# Altium integrated library Linear Technology Power Management Switching Regulator LT1074-LT8705.IntLib: 2252 symbols (part 27 of 148)
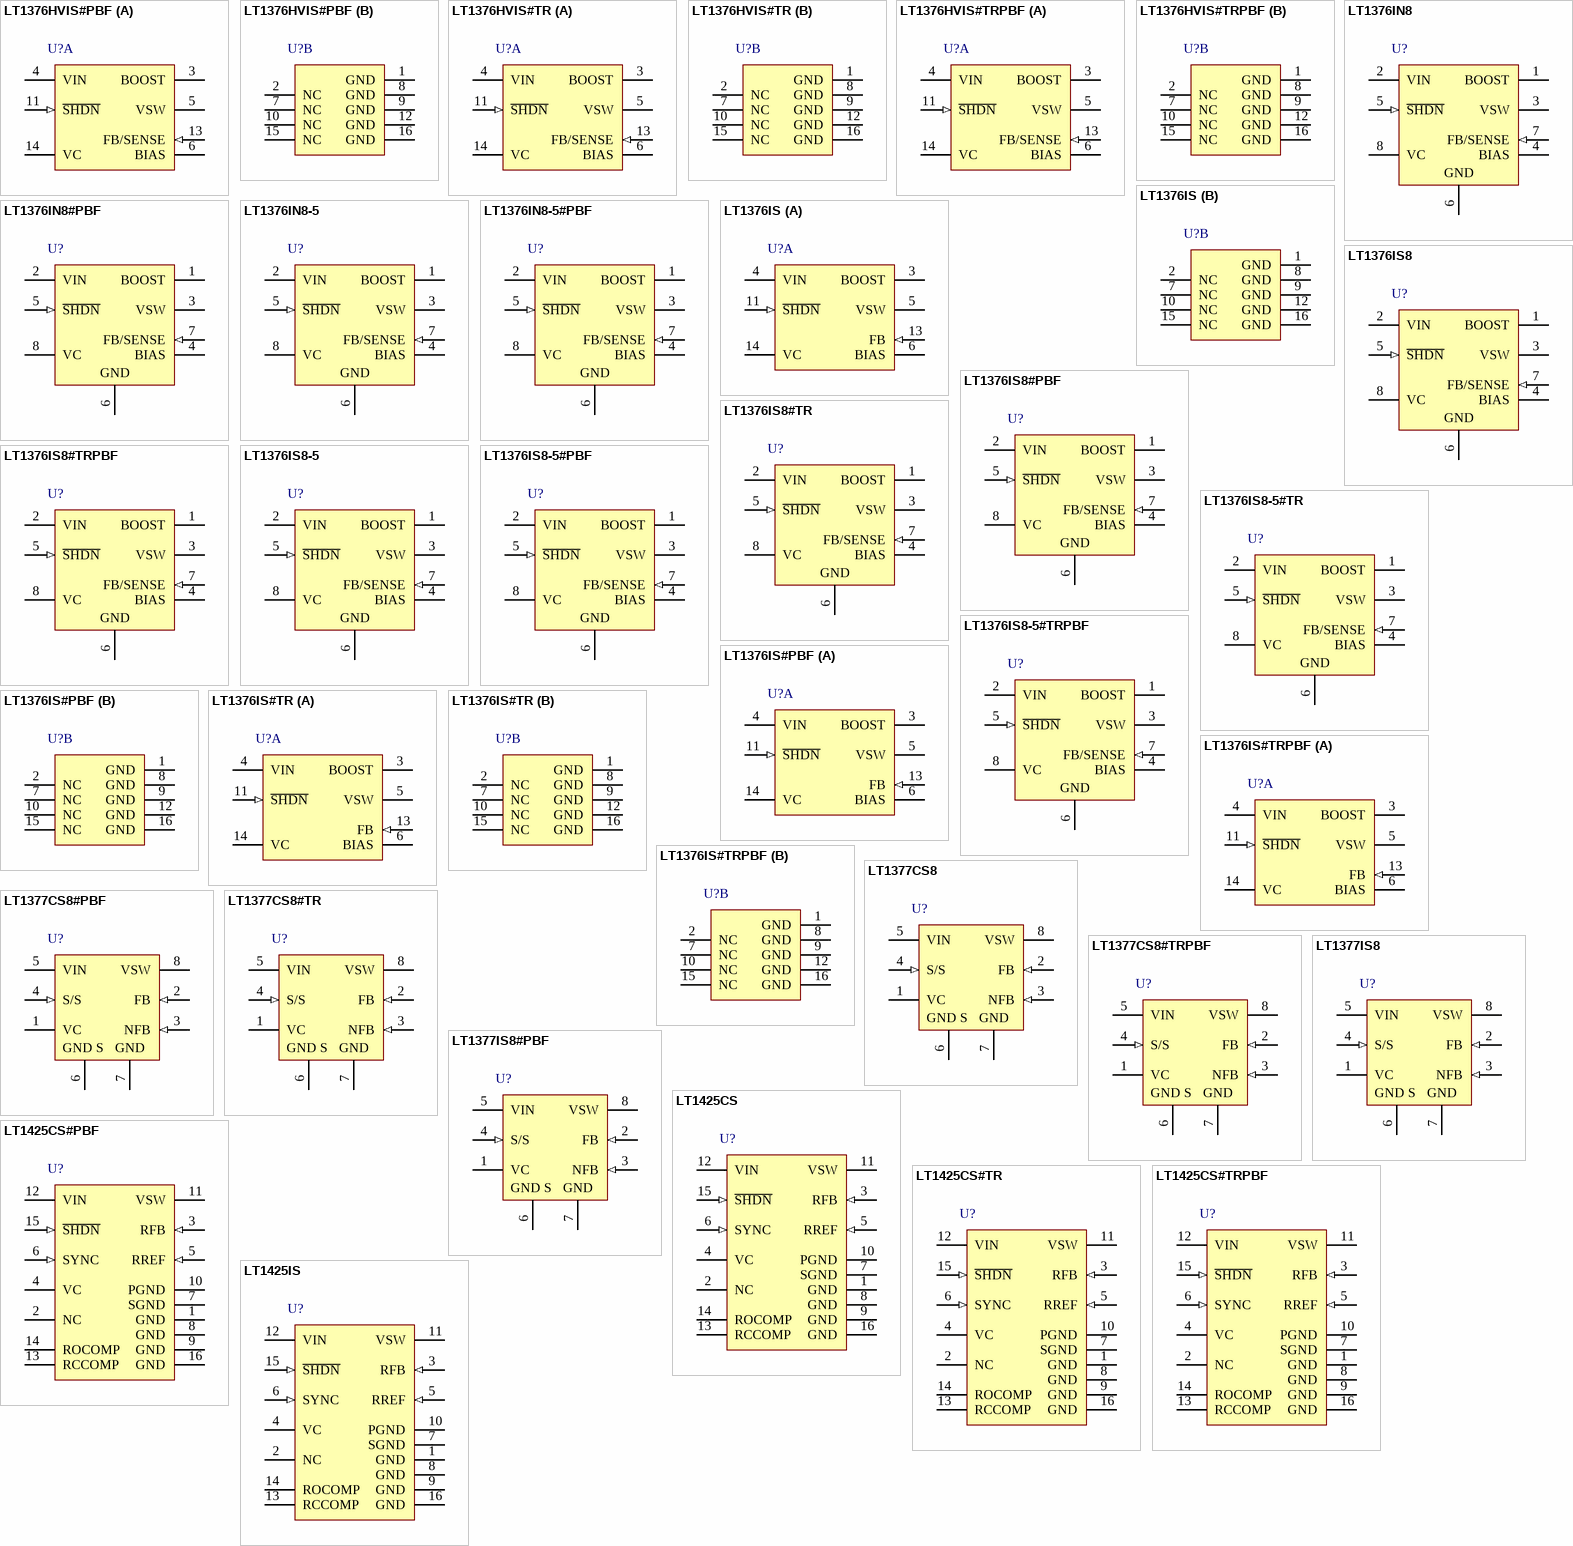
[diagram p97: symbols LT1376HVIS#PBF to LT1425IS]

## LT1425CS
designator U?
Isolated Flyback Switching Regulator, 16-pin SOP (S-16), 0 to 100 degC, Tape and Reel; Manufacturer: Linear Technology; PartNumber: LT1425CS; Number of Outputs: 1; DatasheetVersion: Rev. A; PackageVersion: Rev. G, 05/2012; PackageReference: S-16; PackageDescription: 16-Pin Plastic Small Outline, Body 9.9 x 3.9 mm, Pitch 1.27 mm; Supplier 1: Digi-Key; Supplier Part Number 1: LT1425CS-ND; Supplier 2: Newark; Supplier Part Number 2: 57M3960; RoHS: FALSE; Mounting Technology: Surface Mount; ComponentLink1Description: Manufacturer URL; ComponentLink1URL: http://www.linear.com/; ComponentLink2Description: Datasheet; ComponentLink2URL: http://cds.linear.com/docs/en/datasheet/1425fa.pdf; ComponentLink3Description: Package Specification; ComponentLink3URL: http://cds.linear.com/docs/en/packaging/S16%2005-08-1610%20Rev%20G.pdf
footprint LT-S-16_N (SOP, 16-Leads, Body 10x4mm, Pitch 1.27mm, IPC Medium Density)
footprint LT-S-16_L (SOP, 16-Leads, Body 10x4mm, Pitch 1.27mm, IPC High Density)
footprint LT-S-16_M (SOP, 16-Leads, Body 10x4mm, Pitch 1.27mm, IPC Low Density)
pins: 1 GND (power) "Ground. These pins connect to the substrate of the die and are separate from the power ground and signal ground. They should connect directly to a good quality ground plane.", 2 NC, 3 RFB (in) "Input Pin for External "Feedback" Resistor Connected to Transformer Primary (VSW). The ratio of this resistor to the RREF resistor, times the internal bandgap (VBG) reference, is the primary determinant of the out(See Datasheet)", 4 VC "Control Voltage. This pin is the output of the feedback amplifier and the input of the current comparator. Frequency compensation of the overall loop is effected by placing a capacitor between this node and ground.", 5 RREF (in) "Input Pin for External Ground-Referred "Reference" Resistor. This resistor should be in the range of 3k, but for convenience, need not be this value precisely. See Applications Information for more details.", 6 SYNC (in) "Pin to Synchronize Internal Oscillator to External Frequency Reference. It is directly logic compatible and can be driven with any signal between 10% and 90% duty cycle. If unused, this pin can be left floating; however, for (See Datasheet)", 7 SGND (power) "Signal Ground. This pin is a clean ground. The internal reference and feedback amplifier are referred to it. Keep the ground path connection to RREF and the VC compensation capacitor free of large ground currents.", 8 GND (power) "Ground. These pins connect to the substrate of the die and are separate from the power ground and signal ground. They should connect directly to a good quality ground plane.", 9 GND (power) "Ground. These pins connect to the substrate of the die and are separate from the power ground and signal ground. They should connect directly to a good quality ground plane.", 10 PGND (power) "Power Ground. This pin is the emitter of the power switch device and has large currents flowing through it. It should be connected directly to a good quality ground plane.", 11 VSW (power) "This is the collector node of the output switch and has large currents flowing through it. Keep the traces to the switching components as short as possible to minimize electromagnetic radiation and voltage spikes.", 12 VIN (power) "Supply Voltage. Bypass input supply pin with 10uF or more. The part goes into undervoltage lockout when VIN drops below 2.8V. Undervoltage lockout stops switching and pulls the VC pin low.", 13 RCCOMP "Pin for the External Filter Capacitor for Load Compensation Function. A common 0.1uF ceramic capacitor will suffice for most applications. See Applications Information for further details.", 14 ROCOMP "Input Pin for Optional External Load Compensation Resistor. Use of this pin allows nominal compensation for nonzero output impedance in the power transformer secondary circuit, including secondary winding impedance, output (See Datasheet)", 15 ~{SHDN} (in) "Shutdown. This pin is used to turn off the regulator and reduce VIN input current to a few tens of microamperes. The S\H\D\N\ pin can be left floating when unused.", 16 GND (power) "Ground. These pins connect to the substrate of the die and are separate from the power ground and signal ground. They should connect directly to a good quality ground plane."

## LT1425CS#PBF
designator U?
Isolated Flyback Switching Regulator, 16-pin SOP (S-16), 0 to 100 degC, Pb-Free; Manufacturer: Linear Technology; PartNumber: LT1425CS#PBF; Number of Outputs: 1; DatasheetVersion: Rev. A; PackageVersion: Rev. G, 05/2012; PackageReference: S-16; PackageDescription: 16-Pin Plastic Small Outline, Body 9.9 x 3.9 mm, Pitch 1.27 mm; Supplier 1: Digi-Key; Supplier Part Number 1: LT1425CS#PBF-ND; Supplier 2: Farnell; Supplier Part Number 2: 1273753; Supplier 3: Newark; Supplier Part Number 3: 57M3961; RoHS: TRUE; Mounting Technology: Surface Mount; ComponentLink1Description: Manufacturer URL; ComponentLink1URL: http://www.linear.com/; ComponentLink2Description: Datasheet; ComponentLink2URL: http://cds.linear.com/docs/en/datasheet/1425fa.pdf; ComponentLink3Description: Package Specification; ComponentLink3URL: http://cds.linear.com/docs/en/packaging/S16%2005-08-1610%20Rev%20G.pdf
footprint LT-S-16_N (SOP, 16-Leads, Body 10x4mm, Pitch 1.27mm, IPC Medium Density)
footprint LT-S-16_L (SOP, 16-Leads, Body 10x4mm, Pitch 1.27mm, IPC High Density)
footprint LT-S-16_M (SOP, 16-Leads, Body 10x4mm, Pitch 1.27mm, IPC Low Density)
pins: 1 GND (power) "Ground. These pins connect to the substrate of the die and are separate from the power ground and signal ground. They should connect directly to a good quality ground plane.", 2 NC, 3 RFB (in) "Input Pin for External "Feedback" Resistor Connected to Transformer Primary (VSW). The ratio of this resistor to the RREF resistor, times the internal bandgap (VBG) reference, is the primary determinant of the out(See Datasheet)", 4 VC "Control Voltage. This pin is the output of the feedback amplifier and the input of the current comparator. Frequency compensation of the overall loop is effected by placing a capacitor between this node and ground.", 5 RREF (in) "Input Pin for External Ground-Referred "Reference" Resistor. This resistor should be in the range of 3k, but for convenience, need not be this value precisely. See Applications Information for more details.", 6 SYNC (in) "Pin to Synchronize Internal Oscillator to External Frequency Reference. It is directly logic compatible and can be driven with any signal between 10% and 90% duty cycle. If unused, this pin can be left floating; however, for (See Datasheet)", 7 SGND (power) "Signal Ground. This pin is a clean ground. The internal reference and feedback amplifier are referred to it. Keep the ground path connection to RREF and the VC compensation capacitor free of large ground currents.", 8 GND (power) "Ground. These pins connect to the substrate of the die and are separate from the power ground and signal ground. They should connect directly to a good quality ground plane.", 9 GND (power) "Ground. These pins connect to the substrate of the die and are separate from the power ground and signal ground. They should connect directly to a good quality ground plane.", 10 PGND (power) "Power Ground. This pin is the emitter of the power switch device and has large currents flowing through it. It should be connected directly to a good quality ground plane.", 11 VSW (power) "This is the collector node of the output switch and has large currents flowing through it. Keep the traces to the switching components as short as possible to minimize electromagnetic radiation and voltage spikes.", 12 VIN (power) "Supply Voltage. Bypass input supply pin with 10uF or more. The part goes into undervoltage lockout when VIN drops below 2.8V. Undervoltage lockout stops switching and pulls the VC pin low.", 13 RCCOMP "Pin for the External Filter Capacitor for Load Compensation Function. A common 0.1uF ceramic capacitor will suffice for most applications. See Applications Information for further details.", 14 ROCOMP "Input Pin for Optional External Load Compensation Resistor. Use of this pin allows nominal compensation for nonzero output impedance in the power transformer secondary circuit, including secondary winding impedance, output (See Datasheet)", 15 ~{SHDN} (in) "Shutdown. This pin is used to turn off the regulator and reduce VIN input current to a few tens of microamperes. The S\H\D\N\ pin can be left floating when unused.", 16 GND (power) "Ground. These pins connect to the substrate of the die and are separate from the power ground and signal ground. They should connect directly to a good quality ground plane."

## LT1425CS#TR
designator U?
Isolated Flyback Switching Regulator, 16-pin SOP (S-16), 0 to 100 degC, Tape and Reel; Manufacturer: Linear Technology; PartNumber: LT1425CS#TR; Number of Outputs: 1; DatasheetVersion: Rev. A; PackageVersion: Rev. G, 05/2012; PackageReference: S-16; PackageDescription: 16-Pin Plastic Small Outline, Body 9.9 x 3.9 mm, Pitch 1.27 mm; Supplier 1: Digi-Key; Supplier Part Number 1: LT1425CS#TR-ND; Supplier 2: Newark; Supplier Part Number 2: 57M3962; Packing: Tape and Reel; RoHS: FALSE; Mounting Technology: Surface Mount; ComponentLink1Description: Manufacturer URL; ComponentLink1URL: http://www.linear.com/; ComponentLink2Description: Datasheet; ComponentLink2URL: http://cds.linear.com/docs/en/datasheet/1425fa.pdf; ComponentLink3Description: Package Specification; ComponentLink3URL: http://cds.linear.com/docs/en/packaging/S16%2005-08-1610%20Rev%20G.pdf
footprint LT-S-16_N (SOP, 16-Leads, Body 10x4mm, Pitch 1.27mm, IPC Medium Density)
footprint LT-S-16_L (SOP, 16-Leads, Body 10x4mm, Pitch 1.27mm, IPC High Density)
footprint LT-S-16_M (SOP, 16-Leads, Body 10x4mm, Pitch 1.27mm, IPC Low Density)
pins: 1 GND (power) "Ground. These pins connect to the substrate of the die and are separate from the power ground and signal ground. They should connect directly to a good quality ground plane.", 2 NC, 3 RFB (in) "Input Pin for External "Feedback" Resistor Connected to Transformer Primary (VSW). The ratio of this resistor to the RREF resistor, times the internal bandgap (VBG) reference, is the primary determinant of the out(See Datasheet)", 4 VC "Control Voltage. This pin is the output of the feedback amplifier and the input of the current comparator. Frequency compensation of the overall loop is effected by placing a capacitor between this node and ground.", 5 RREF (in) "Input Pin for External Ground-Referred "Reference" Resistor. This resistor should be in the range of 3k, but for convenience, need not be this value precisely. See Applications Information for more details.", 6 SYNC (in) "Pin to Synchronize Internal Oscillator to External Frequency Reference. It is directly logic compatible and can be driven with any signal between 10% and 90% duty cycle. If unused, this pin can be left floating; however, for (See Datasheet)", 7 SGND (power) "Signal Ground. This pin is a clean ground. The internal reference and feedback amplifier are referred to it. Keep the ground path connection to RREF and the VC compensation capacitor free of large ground currents.", 8 GND (power) "Ground. These pins connect to the substrate of the die and are separate from the power ground and signal ground. They should connect directly to a good quality ground plane.", 9 GND (power) "Ground. These pins connect to the substrate of the die and are separate from the power ground and signal ground. They should connect directly to a good quality ground plane.", 10 PGND (power) "Power Ground. This pin is the emitter of the power switch device and has large currents flowing through it. It should be connected directly to a good quality ground plane.", 11 VSW (power) "This is the collector node of the output switch and has large currents flowing through it. Keep the traces to the switching components as short as possible to minimize electromagnetic radiation and voltage spikes.", 12 VIN (power) "Supply Voltage. Bypass input supply pin with 10uF or more. The part goes into undervoltage lockout when VIN drops below 2.8V. Undervoltage lockout stops switching and pulls the VC pin low.", 13 RCCOMP "Pin for the External Filter Capacitor for Load Compensation Function. A common 0.1uF ceramic capacitor will suffice for most applications. See Applications Information for further details.", 14 ROCOMP "Input Pin for Optional External Load Compensation Resistor. Use of this pin allows nominal compensation for nonzero output impedance in the power transformer secondary circuit, including secondary winding impedance, output (See Datasheet)", 15 ~{SHDN} (in) "Shutdown. This pin is used to turn off the regulator and reduce VIN input current to a few tens of microamperes. The S\H\D\N\ pin can be left floating when unused.", 16 GND (power) "Ground. These pins connect to the substrate of the die and are separate from the power ground and signal ground. They should connect directly to a good quality ground plane."

## LT1425CS#TRPBF
designator U?
Isolated Flyback Switching Regulator, 16-pin SOP (S-16), 0 to 100 degC, Pb-Free, Tape and Reel; Manufacturer: Linear Technology; PartNumber: LT1425CS#TRPBF; Number of Outputs: 1; DatasheetVersion: Rev. A; PackageVersion: Rev. G, 05/2012; PackageReference: S-16; PackageDescription: 16-Pin Plastic Small Outline, Body 9.9 x 3.9 mm, Pitch 1.27 mm; Supplier 1: Digi-Key; Supplier Part Number 1: LT1425CS#TRPBF-ND; Supplier 2: Newark; Supplier Part Number 2: 57M3963; Packing: Tape and Reel; RoHS: TRUE; Mounting Technology: Surface Mount; ComponentLink1Description: Manufacturer URL; ComponentLink1URL: http://www.linear.com/; ComponentLink2Description: Datasheet; ComponentLink2URL: http://cds.linear.com/docs/en/datasheet/1425fa.pdf; ComponentLink3Description: Package Specification; ComponentLink3URL: http://cds.linear.com/docs/en/packaging/S16%2005-08-1610%20Rev%20G.pdf
footprint LT-S-16_N (SOP, 16-Leads, Body 10x4mm, Pitch 1.27mm, IPC Medium Density)
footprint LT-S-16_L (SOP, 16-Leads, Body 10x4mm, Pitch 1.27mm, IPC High Density)
footprint LT-S-16_M (SOP, 16-Leads, Body 10x4mm, Pitch 1.27mm, IPC Low Density)
pins: 1 GND (power) "Ground. These pins connect to the substrate of the die and are separate from the power ground and signal ground. They should connect directly to a good quality ground plane.", 2 NC, 3 RFB (in) "Input Pin for External "Feedback" Resistor Connected to Transformer Primary (VSW). The ratio of this resistor to the RREF resistor, times the internal bandgap (VBG) reference, is the primary determinant of the out(See Datasheet)", 4 VC "Control Voltage. This pin is the output of the feedback amplifier and the input of the current comparator. Frequency compensation of the overall loop is effected by placing a capacitor between this node and ground.", 5 RREF (in) "Input Pin for External Ground-Referred "Reference" Resistor. This resistor should be in the range of 3k, but for convenience, need not be this value precisely. See Applications Information for more details.", 6 SYNC (in) "Pin to Synchronize Internal Oscillator to External Frequency Reference. It is directly logic compatible and can be driven with any signal between 10% and 90% duty cycle. If unused, this pin can be left floating; however, for (See Datasheet)", 7 SGND (power) "Signal Ground. This pin is a clean ground. The internal reference and feedback amplifier are referred to it. Keep the ground path connection to RREF and the VC compensation capacitor free of large ground currents.", 8 GND (power) "Ground. These pins connect to the substrate of the die and are separate from the power ground and signal ground. They should connect directly to a good quality ground plane.", 9 GND (power) "Ground. These pins connect to the substrate of the die and are separate from the power ground and signal ground. They should connect directly to a good quality ground plane.", 10 PGND (power) "Power Ground. This pin is the emitter of the power switch device and has large currents flowing through it. It should be connected directly to a good quality ground plane.", 11 VSW (power) "This is the collector node of the output switch and has large currents flowing through it. Keep the traces to the switching components as short as possible to minimize electromagnetic radiation and voltage spikes.", 12 VIN (power) "Supply Voltage. Bypass input supply pin with 10uF or more. The part goes into undervoltage lockout when VIN drops below 2.8V. Undervoltage lockout stops switching and pulls the VC pin low.", 13 RCCOMP "Pin for the External Filter Capacitor for Load Compensation Function. A common 0.1uF ceramic capacitor will suffice for most applications. See Applications Information for further details.", 14 ROCOMP "Input Pin for Optional External Load Compensation Resistor. Use of this pin allows nominal compensation for nonzero output impedance in the power transformer secondary circuit, including secondary winding impedance, output (See Datasheet)", 15 ~{SHDN} (in) "Shutdown. This pin is used to turn off the regulator and reduce VIN input current to a few tens of microamperes. The S\H\D\N\ pin can be left floating when unused.", 16 GND (power) "Ground. These pins connect to the substrate of the die and are separate from the power ground and signal ground. They should connect directly to a good quality ground plane."

## LT1425IS
designator U?
Isolated Flyback Switching Regulator, 16-pin SOP (S-16), -40 to 100 degC; Manufacturer: Linear Technology; PartNumber: LT1425IS; Number of Outputs: 1; DatasheetVersion: Rev. A; PackageVersion: Rev. G, 05/2012; PackageReference: S-16; PackageDescription: 16-Pin Plastic Small Outline, Body 9.9 x 3.9 mm, Pitch 1.27 mm; Supplier 1: Digi-Key; Supplier Part Number 1: LT1425IS-ND; Supplier 2: Newark; Supplier Part Number 2: 57M3964; RoHS: FALSE; Mounting Technology: Surface Mount; ComponentLink1Description: Manufacturer URL; ComponentLink1URL: http://www.linear.com/; ComponentLink2Description: Datasheet; ComponentLink2URL: http://cds.linear.com/docs/en/datasheet/1425fa.pdf; ComponentLink3Description: Package Specification; ComponentLink3URL: http://cds.linear.com/docs/en/packaging/S16%2005-08-1610%20Rev%20G.pdf
footprint LT-S-16_N (SOP, 16-Leads, Body 10x4mm, Pitch 1.27mm, IPC Medium Density)
footprint LT-S-16_L (SOP, 16-Leads, Body 10x4mm, Pitch 1.27mm, IPC High Density)
footprint LT-S-16_M (SOP, 16-Leads, Body 10x4mm, Pitch 1.27mm, IPC Low Density)
pins: 1 GND (power) "Ground. These pins connect to the substrate of the die and are separate from the power ground and signal ground. They should connect directly to a good quality ground plane.", 2 NC, 3 RFB (in) "Input Pin for External "Feedback" Resistor Connected to Transformer Primary (VSW). The ratio of this resistor to the RREF resistor, times the internal bandgap (VBG) reference, is the primary determinant of the out(See Datasheet)", 4 VC "Control Voltage. This pin is the output of the feedback amplifier and the input of the current comparator. Frequency compensation of the overall loop is effected by placing a capacitor between this node and ground.", 5 RREF (in) "Input Pin for External Ground-Referred "Reference" Resistor. This resistor should be in the range of 3k, but for convenience, need not be this value precisely. See Applications Information for more details.", 6 SYNC (in) "Pin to Synchronize Internal Oscillator to External Frequency Reference. It is directly logic compatible and can be driven with any signal between 10% and 90% duty cycle. If unused, this pin can be left floating; however, for (See Datasheet)", 7 SGND (power) "Signal Ground. This pin is a clean ground. The internal reference and feedback amplifier are referred to it. Keep the ground path connection to RREF and the VC compensation capacitor free of large ground currents.", 8 GND (power) "Ground. These pins connect to the substrate of the die and are separate from the power ground and signal ground. They should connect directly to a good quality ground plane.", 9 GND (power) "Ground. These pins connect to the substrate of the die and are separate from the power ground and signal ground. They should connect directly to a good quality ground plane.", 10 PGND (power) "Power Ground. This pin is the emitter of the power switch device and has large currents flowing through it. It should be connected directly to a good quality ground plane.", 11 VSW (power) "This is the collector node of the output switch and has large currents flowing through it. Keep the traces to the switching components as short as possible to minimize electromagnetic radiation and voltage spikes.", 12 VIN (power) "Supply Voltage. Bypass input supply pin with 10uF or more. The part goes into undervoltage lockout when VIN drops below 2.8V. Undervoltage lockout stops switching and pulls the VC pin low.", 13 RCCOMP "Pin for the External Filter Capacitor for Load Compensation Function. A common 0.1uF ceramic capacitor will suffice for most applications. See Applications Information for further details.", 14 ROCOMP "Input Pin for Optional External Load Compensation Resistor. Use of this pin allows nominal compensation for nonzero output impedance in the power transformer secondary circuit, including secondary winding impedance, output (See Datasheet)", 15 ~{SHDN} (in) "Shutdown. This pin is used to turn off the regulator and reduce VIN input current to a few tens of microamperes. The S\H\D\N\ pin can be left floating when unused.", 16 GND (power) "Ground. These pins connect to the substrate of the die and are separate from the power ground and signal ground. They should connect directly to a good quality ground plane."

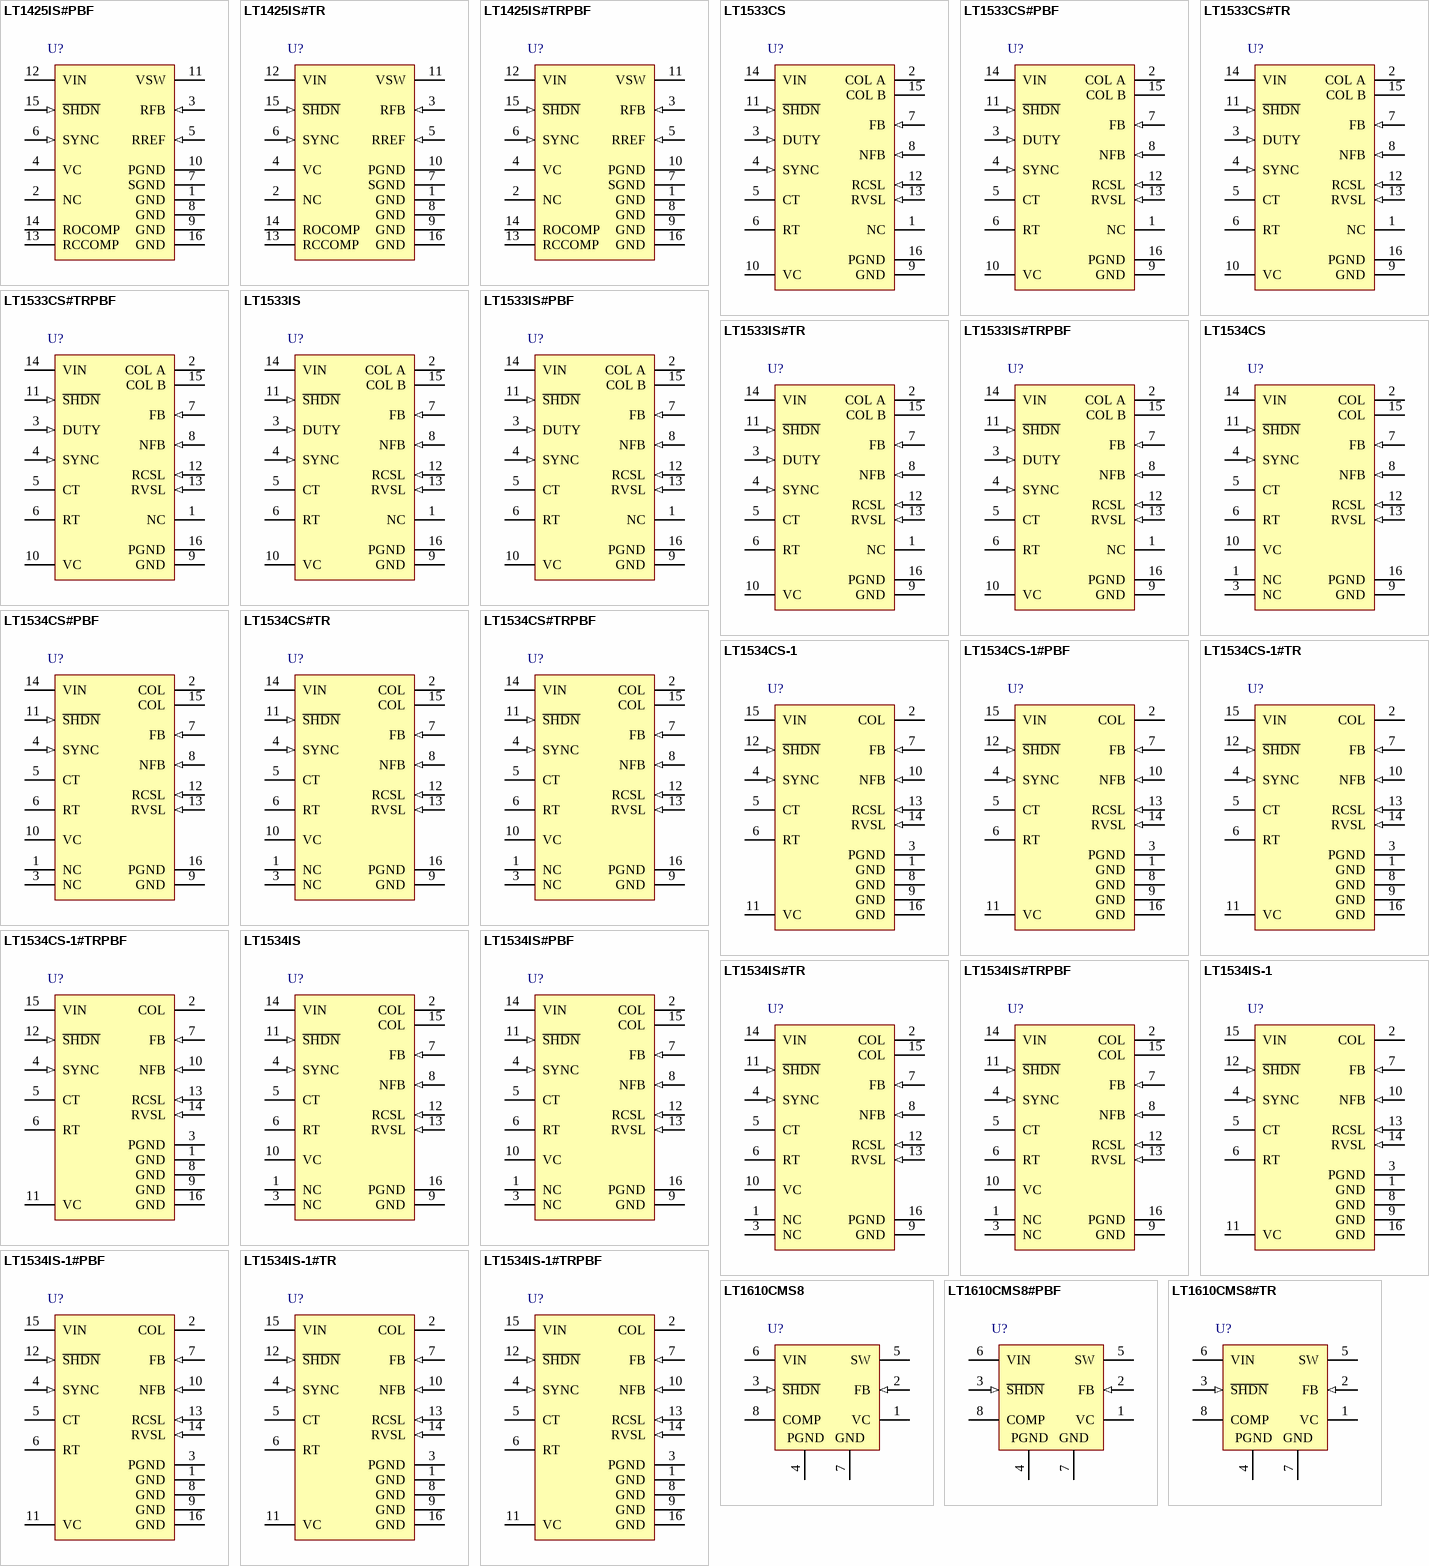
[diagram p15: symbols LT1425IS#PBF to LT1610CMS8#TR]

## LT1425IS#PBF
designator U?
Isolated Flyback Switching Regulator, 16-pin SOP (S-16), -40 to 100 degC, Pb-Free; Manufacturer: Linear Technology; PartNumber: LT1425IS#PBF; Number of Outputs: 1; DatasheetVersion: Rev. A; PackageVersion: Rev. G, 05/2012; PackageReference: S-16; PackageDescription: 16-Pin Plastic Small Outline, Body 9.9 x 3.9 mm, Pitch 1.27 mm; Supplier 1: Digi-Key; Supplier Part Number 1: LT1425IS#PBF-ND; Supplier 2: Farnell; Supplier Part Number 2: 1663421; Supplier 3: Newark; Supplier Part Number 3: 57M3965; RoHS: TRUE; Mounting Technology: Surface Mount; ComponentLink1Description: Manufacturer URL; ComponentLink1URL: http://www.linear.com/; ComponentLink2Description: Datasheet; ComponentLink2URL: http://cds.linear.com/docs/en/datasheet/1425fa.pdf; ComponentLink3Description: Package Specification; ComponentLink3URL: http://cds.linear.com/docs/en/packaging/S16%2005-08-1610%20Rev%20G.pdf
footprint LT-S-16_N (SOP, 16-Leads, Body 10x4mm, Pitch 1.27mm, IPC Medium Density)
footprint LT-S-16_L (SOP, 16-Leads, Body 10x4mm, Pitch 1.27mm, IPC High Density)
footprint LT-S-16_M (SOP, 16-Leads, Body 10x4mm, Pitch 1.27mm, IPC Low Density)
pins: 1 GND (power) "Ground. These pins connect to the substrate of the die and are separate from the power ground and signal ground. They should connect directly to a good quality ground plane.", 2 NC, 3 RFB (in) "Input Pin for External "Feedback" Resistor Connected to Transformer Primary (VSW). The ratio of this resistor to the RREF resistor, times the internal bandgap (VBG) reference, is the primary determinant of the out(See Datasheet)", 4 VC "Control Voltage. This pin is the output of the feedback amplifier and the input of the current comparator. Frequency compensation of the overall loop is effected by placing a capacitor between this node and ground.", 5 RREF (in) "Input Pin for External Ground-Referred "Reference" Resistor. This resistor should be in the range of 3k, but for convenience, need not be this value precisely. See Applications Information for more details.", 6 SYNC (in) "Pin to Synchronize Internal Oscillator to External Frequency Reference. It is directly logic compatible and can be driven with any signal between 10% and 90% duty cycle. If unused, this pin can be left floating; however, for (See Datasheet)", 7 SGND (power) "Signal Ground. This pin is a clean ground. The internal reference and feedback amplifier are referred to it. Keep the ground path connection to RREF and the VC compensation capacitor free of large ground currents.", 8 GND (power) "Ground. These pins connect to the substrate of the die and are separate from the power ground and signal ground. They should connect directly to a good quality ground plane.", 9 GND (power) "Ground. These pins connect to the substrate of the die and are separate from the power ground and signal ground. They should connect directly to a good quality ground plane.", 10 PGND (power) "Power Ground. This pin is the emitter of the power switch device and has large currents flowing through it. It should be connected directly to a good quality ground plane.", 11 VSW (power) "This is the collector node of the output switch and has large currents flowing through it. Keep the traces to the switching components as short as possible to minimize electromagnetic radiation and voltage spikes.", 12 VIN (power) "Supply Voltage. Bypass input supply pin with 10uF or more. The part goes into undervoltage lockout when VIN drops below 2.8V. Undervoltage lockout stops switching and pulls the VC pin low.", 13 RCCOMP "Pin for the External Filter Capacitor for Load Compensation Function. A common 0.1uF ceramic capacitor will suffice for most applications. See Applications Information for further details.", 14 ROCOMP "Input Pin for Optional External Load Compensation Resistor. Use of this pin allows nominal compensation for nonzero output impedance in the power transformer secondary circuit, including secondary winding impedance, output (See Datasheet)", 15 ~{SHDN} (in) "Shutdown. This pin is used to turn off the regulator and reduce VIN input current to a few tens of microamperes. The S\H\D\N\ pin can be left floating when unused.", 16 GND (power) "Ground. These pins connect to the substrate of the die and are separate from the power ground and signal ground. They should connect directly to a good quality ground plane."

## LT1425IS#TR
designator U?
Isolated Flyback Switching Regulator, 16-pin SOP (S-16), -40 to 100 degC, Tape and Reel; Manufacturer: Linear Technology; PartNumber: LT1425IS#TR; Number of Outputs: 1; DatasheetVersion: Rev. A; PackageVersion: Rev. G, 05/2012; PackageReference: S-16; PackageDescription: 16-Pin Plastic Small Outline, Body 9.9 x 3.9 mm, Pitch 1.27 mm; Supplier 1: Digi-Key; Supplier Part Number 1: LT1425IS#TR-ND; Packing: Tape and Reel; RoHS: FALSE; Mounting Technology: Surface Mount; ComponentLink1Description: Manufacturer URL; ComponentLink1URL: http://www.linear.com/; ComponentLink2Description: Datasheet; ComponentLink2URL: http://cds.linear.com/docs/en/datasheet/1425fa.pdf; ComponentLink3Description: Package Specification; ComponentLink3URL: http://cds.linear.com/docs/en/packaging/S16%2005-08-1610%20Rev%20G.pdf
footprint LT-S-16_N (SOP, 16-Leads, Body 10x4mm, Pitch 1.27mm, IPC Medium Density)
footprint LT-S-16_L (SOP, 16-Leads, Body 10x4mm, Pitch 1.27mm, IPC High Density)
footprint LT-S-16_M (SOP, 16-Leads, Body 10x4mm, Pitch 1.27mm, IPC Low Density)
pins: 1 GND (power) "Ground. These pins connect to the substrate of the die and are separate from the power ground and signal ground. They should connect directly to a good quality ground plane.", 2 NC, 3 RFB (in) "Input Pin for External "Feedback" Resistor Connected to Transformer Primary (VSW). The ratio of this resistor to the RREF resistor, times the internal bandgap (VBG) reference, is the primary determinant of the out(See Datasheet)", 4 VC "Control Voltage. This pin is the output of the feedback amplifier and the input of the current comparator. Frequency compensation of the overall loop is effected by placing a capacitor between this node and ground.", 5 RREF (in) "Input Pin for External Ground-Referred "Reference" Resistor. This resistor should be in the range of 3k, but for convenience, need not be this value precisely. See Applications Information for more details.", 6 SYNC (in) "Pin to Synchronize Internal Oscillator to External Frequency Reference. It is directly logic compatible and can be driven with any signal between 10% and 90% duty cycle. If unused, this pin can be left floating; however, for (See Datasheet)", 7 SGND (power) "Signal Ground. This pin is a clean ground. The internal reference and feedback amplifier are referred to it. Keep the ground path connection to RREF and the VC compensation capacitor free of large ground currents.", 8 GND (power) "Ground. These pins connect to the substrate of the die and are separate from the power ground and signal ground. They should connect directly to a good quality ground plane.", 9 GND (power) "Ground. These pins connect to the substrate of the die and are separate from the power ground and signal ground. They should connect directly to a good quality ground plane.", 10 PGND (power) "Power Ground. This pin is the emitter of the power switch device and has large currents flowing through it. It should be connected directly to a good quality ground plane.", 11 VSW (power) "This is the collector node of the output switch and has large currents flowing through it. Keep the traces to the switching components as short as possible to minimize electromagnetic radiation and voltage spikes.", 12 VIN (power) "Supply Voltage. Bypass input supply pin with 10uF or more. The part goes into undervoltage lockout when VIN drops below 2.8V. Undervoltage lockout stops switching and pulls the VC pin low.", 13 RCCOMP "Pin for the External Filter Capacitor for Load Compensation Function. A common 0.1uF ceramic capacitor will suffice for most applications. See Applications Information for further details.", 14 ROCOMP "Input Pin for Optional External Load Compensation Resistor. Use of this pin allows nominal compensation for nonzero output impedance in the power transformer secondary circuit, including secondary winding impedance, output (See Datasheet)", 15 ~{SHDN} (in) "Shutdown. This pin is used to turn off the regulator and reduce VIN input current to a few tens of microamperes. The S\H\D\N\ pin can be left floating when unused.", 16 GND (power) "Ground. These pins connect to the substrate of the die and are separate from the power ground and signal ground. They should connect directly to a good quality ground plane."

## LT1425IS#TRPBF
designator U?
Isolated Flyback Switching Regulator, 16-pin SOP (S-16), -40 to 100 degC, Pb-Free, Tape and Reel; Manufacturer: Linear Technology; PartNumber: LT1425IS#TRPBF; Number of Outputs: 1; DatasheetVersion: Rev. A; PackageVersion: Rev. G, 05/2012; PackageReference: S-16; PackageDescription: 16-Pin Plastic Small Outline, Body 9.9 x 3.9 mm, Pitch 1.27 mm; Supplier 1: Digi-Key; Supplier Part Number 1: LT1425IS#TRPBF-ND; Packing: Tape and Reel; RoHS: TRUE; Mounting Technology: Surface Mount; ComponentLink1Description: Manufacturer URL; ComponentLink1URL: http://www.linear.com/; ComponentLink2Description: Datasheet; ComponentLink2URL: http://cds.linear.com/docs/en/datasheet/1425fa.pdf; ComponentLink3Description: Package Specification; ComponentLink3URL: http://cds.linear.com/docs/en/packaging/S16%2005-08-1610%20Rev%20G.pdf
footprint LT-S-16_N (SOP, 16-Leads, Body 10x4mm, Pitch 1.27mm, IPC Medium Density)
footprint LT-S-16_L (SOP, 16-Leads, Body 10x4mm, Pitch 1.27mm, IPC High Density)
footprint LT-S-16_M (SOP, 16-Leads, Body 10x4mm, Pitch 1.27mm, IPC Low Density)
pins: 1 GND (power) "Ground. These pins connect to the substrate of the die and are separate from the power ground and signal ground. They should connect directly to a good quality ground plane.", 2 NC, 3 RFB (in) "Input Pin for External "Feedback" Resistor Connected to Transformer Primary (VSW). The ratio of this resistor to the RREF resistor, times the internal bandgap (VBG) reference, is the primary determinant of the out(See Datasheet)", 4 VC "Control Voltage. This pin is the output of the feedback amplifier and the input of the current comparator. Frequency compensation of the overall loop is effected by placing a capacitor between this node and ground.", 5 RREF (in) "Input Pin for External Ground-Referred "Reference" Resistor. This resistor should be in the range of 3k, but for convenience, need not be this value precisely. See Applications Information for more details.", 6 SYNC (in) "Pin to Synchronize Internal Oscillator to External Frequency Reference. It is directly logic compatible and can be driven with any signal between 10% and 90% duty cycle. If unused, this pin can be left floating; however, for (See Datasheet)", 7 SGND (power) "Signal Ground. This pin is a clean ground. The internal reference and feedback amplifier are referred to it. Keep the ground path connection to RREF and the VC compensation capacitor free of large ground currents.", 8 GND (power) "Ground. These pins connect to the substrate of the die and are separate from the power ground and signal ground. They should connect directly to a good quality ground plane.", 9 GND (power) "Ground. These pins connect to the substrate of the die and are separate from the power ground and signal ground. They should connect directly to a good quality ground plane.", 10 PGND (power) "Power Ground. This pin is the emitter of the power switch device and has large currents flowing through it. It should be connected directly to a good quality ground plane.", 11 VSW (power) "This is the collector node of the output switch and has large currents flowing through it. Keep the traces to the switching components as short as possible to minimize electromagnetic radiation and voltage spikes.", 12 VIN (power) "Supply Voltage. Bypass input supply pin with 10uF or more. The part goes into undervoltage lockout when VIN drops below 2.8V. Undervoltage lockout stops switching and pulls the VC pin low.", 13 RCCOMP "Pin for the External Filter Capacitor for Load Compensation Function. A common 0.1uF ceramic capacitor will suffice for most applications. See Applications Information for further details.", 14 ROCOMP "Input Pin for Optional External Load Compensation Resistor. Use of this pin allows nominal compensation for nonzero output impedance in the power transformer secondary circuit, including secondary winding impedance, output (See Datasheet)", 15 ~{SHDN} (in) "Shutdown. This pin is used to turn off the regulator and reduce VIN input current to a few tens of microamperes. The S\H\D\N\ pin can be left floating when unused.", 16 GND (power) "Ground. These pins connect to the substrate of the die and are separate from the power ground and signal ground. They should connect directly to a good quality ground plane."

## LT1533CS
designator U?
Ultralow Noise 1 A Switching Regulator, 16-pin SOP (S-16), 0 to 100 degC; Manufacturer: Linear Technology; PartNumber: LT1533CS; Number of Outputs: 1; PackageVersion: Rev. G, 05/2012; PackageReference: S-16; PackageDescription: 16-Pin Plastic Small Outline, Body 9.9 x 3.9 mm, Pitch 1.27 mm; Supplier 1: Digi-Key; Supplier Part Number 1: LT1533CS-ND; RoHS: FALSE; Mounting Technology: Surface Mount; ComponentLink1Description: Manufacturer URL; ComponentLink1URL: http://www.linear.com/; ComponentLink2Description: Datasheet; ComponentLink2URL: http://cds.linear.com/docs/en/datasheet/1533f.pdf; ComponentLink3Description: Package Specification; ComponentLink3URL: http://cds.linear.com/docs/en/packaging/S16%2005-08-1610%20Rev%20G.pdf
footprint LT-S-16_N (SOP, 16-Leads, Body 10x4mm, Pitch 1.27mm, IPC Medium Density)
footprint LT-S-16_L (SOP, 16-Leads, Body 10x4mm, Pitch 1.27mm, IPC High Density)
footprint LT-S-16_M (SOP, 16-Leads, Body 10x4mm, Pitch 1.27mm, IPC Low Density)
pins: 1 NC, 2 COL A (power) "These are the output collectors of the power switches. Their emitters return to PGND through a common sense resistor. COL A and COL B are alternately turned on out of phase. Large currents flow into these pins so it is (See Datasheet)", 3 DUTY (in) "Tying the DUTY pin to ground will force the outputs to switch with a 50% duty cycle. The DUTY pin must float if not used.", 4 SYNC (in) "The SYNC pin can be used to synchronize the oscillator to an external clock (see Oscillator Sync in Applications Information section for more details). The SYNC pin may either be floated or tied to ground if not used.", 5 CT "The oscillator capacitor pin is used in conjunction with RT to set the oscillator frequency.", 6 RT "The oscillator resistor pin is used to set the charge and discharge currents of the oscillator capacitor. The nominal value is 16.9k. It is possible to adjust this resistance +/-25% to get a more accurate oscillator (See Datasheet)", 7 FB (in) "The feedback pin is used for positive voltage sensing and oscillator frequency shifting during start-up and short-circuit conditions. It is the inverting input to the error amplifier. The noninverting input of this amplifier (See Datasheet)", 8 NFB (in) "The negative voltage feedback pin is used for sensing a negative output voltage. The pin is connected to the inverting input of the negative feedback amplifier through a 100k source resistor. The negative feedback amplifier (See Datasheet)", 9 GND (power) "Signal Ground. The internal error amplifier, negative feedback amplifier, oscillator, slew control circuitry and the bandgap reference are referred to this ground. Keep the connection to the feedback divider and VC (See Datasheet)", 10 VC "The compensation pin is used for frequency compensation and current limiting. It is the output of the error amplifier and the input of the current comparator. Loop frequency compensation can be performed with an RC network (See Datasheet)", 11 ~{SHDN} (in) "The shutdown pin is used for disabling the switcher. Grounding this pin will disable all internal circuitry. Normally this output can be tied high (to VIN) or may be left floating.", 12 RCSL (in) "A resistor to ground sets the current slew rate for the collectors A and B. The minimum resistor value is 3.9k and the maximum value is 68k.", 13 RVSL (in) "A resistor to ground sets the voltage slew rate for the collectors A and B. The minimum resistor value is 3.9k and the maximum value is 68k.", 14 VIN (power) "Input Supply Pin. Bypass this pin with a >= 4.7uF low ESR capacitor. When VIN is below 2.55V the part will go into undervoltage lockout where it will stop output switching and pull the VC pin low.", 15 COL B (power) "These are the output collectors of the power switches. Their emitters return to PGND through a common sense resistor. COL A and COL B are alternately turned on out of phase. Large currents flow into these pins so it is (See Datasheet)", 16 PGND (power) "Power Switch Ground. This ground comes from the emitters of the power switches. In normal operation this pin should have approximately 25nH inductance to ground. This can be done by trace inductance (approximately 1") or (See Datasheet)"

## LT1533CS#PBF
designator U?
Ultralow Noise 1 A Switching Regulator, 16-pin SOP (S-16), 0 to 100 degC, Pb-Free; Manufacturer: Linear Technology; PartNumber: LT1533CS#PBF; Number of Outputs: 1; PackageVersion: Rev. G, 05/2012; PackageReference: S-16; PackageDescription: 16-Pin Plastic Small Outline, Body 9.9 x 3.9 mm, Pitch 1.27 mm; Supplier 1: Digi-Key; Supplier Part Number 1: LT1533CS#PBF-ND; Supplier 2: Farnell; Supplier Part Number 2: 1273763; Supplier 3: Newark; Supplier Part Number 3: 57M4842; RoHS: TRUE; Mounting Technology: Surface Mount; ComponentLink1Description: Manufacturer URL; ComponentLink1URL: http://www.linear.com/; ComponentLink2Description: Datasheet; ComponentLink2URL: http://cds.linear.com/docs/en/datasheet/1533f.pdf; ComponentLink3Description: Package Specification; ComponentLink3URL: http://cds.linear.com/docs/en/packaging/S16%2005-08-1610%20Rev%20G.pdf
footprint LT-S-16_N (SOP, 16-Leads, Body 10x4mm, Pitch 1.27mm, IPC Medium Density)
footprint LT-S-16_L (SOP, 16-Leads, Body 10x4mm, Pitch 1.27mm, IPC High Density)
footprint LT-S-16_M (SOP, 16-Leads, Body 10x4mm, Pitch 1.27mm, IPC Low Density)
pins: 1 NC, 2 COL A (power) "These are the output collectors of the power switches. Their emitters return to PGND through a common sense resistor. COL A and COL B are alternately turned on out of phase. Large currents flow into these pins so it is (See Datasheet)", 3 DUTY (in) "Tying the DUTY pin to ground will force the outputs to switch with a 50% duty cycle. The DUTY pin must float if not used.", 4 SYNC (in) "The SYNC pin can be used to synchronize the oscillator to an external clock (see Oscillator Sync in Applications Information section for more details). The SYNC pin may either be floated or tied to ground if not used.", 5 CT "The oscillator capacitor pin is used in conjunction with RT to set the oscillator frequency.", 6 RT "The oscillator resistor pin is used to set the charge and discharge currents of the oscillator capacitor. The nominal value is 16.9k. It is possible to adjust this resistance +/-25% to get a more accurate oscillator (See Datasheet)", 7 FB (in) "The feedback pin is used for positive voltage sensing and oscillator frequency shifting during start-up and short-circuit conditions. It is the inverting input to the error amplifier. The noninverting input of this amplifier (See Datasheet)", 8 NFB (in) "The negative voltage feedback pin is used for sensing a negative output voltage. The pin is connected to the inverting input of the negative feedback amplifier through a 100k source resistor. The negative feedback amplifier (See Datasheet)", 9 GND (power) "Signal Ground. The internal error amplifier, negative feedback amplifier, oscillator, slew control circuitry and the bandgap reference are referred to this ground. Keep the connection to the feedback divider and VC (See Datasheet)", 10 VC "The compensation pin is used for frequency compensation and current limiting. It is the output of the error amplifier and the input of the current comparator. Loop frequency compensation can be performed with an RC network (See Datasheet)", 11 ~{SHDN} (in) "The shutdown pin is used for disabling the switcher. Grounding this pin will disable all internal circuitry. Normally this output can be tied high (to VIN) or may be left floating.", 12 RCSL (in) "A resistor to ground sets the current slew rate for the collectors A and B. The minimum resistor value is 3.9k and the maximum value is 68k.", 13 RVSL (in) "A resistor to ground sets the voltage slew rate for the collectors A and B. The minimum resistor value is 3.9k and the maximum value is 68k.", 14 VIN (power) "Input Supply Pin. Bypass this pin with a >= 4.7uF low ESR capacitor. When VIN is below 2.55V the part will go into undervoltage lockout where it will stop output switching and pull the VC pin low.", 15 COL B (power) "These are the output collectors of the power switches. Their emitters return to PGND through a common sense resistor. COL A and COL B are alternately turned on out of phase. Large currents flow into these pins so it is (See Datasheet)", 16 PGND (power) "Power Switch Ground. This ground comes from the emitters of the power switches. In normal operation this pin should have approximately 25nH inductance to ground. This can be done by trace inductance (approximately 1") or (See Datasheet)"

## LT1533CS#TR
designator U?
Ultralow Noise 1 A Switching Regulator, 16-pin SOP (S-16), 0 to 100 degC, Tape and Reel; Manufacturer: Linear Technology; PartNumber: LT1533CS#TR; Number of Outputs: 1; PackageVersion: Rev. G, 05/2012; PackageReference: S-16; PackageDescription: 16-Pin Plastic Small Outline, Body 9.9 x 3.9 mm, Pitch 1.27 mm; Supplier 1: Digi-Key; Supplier Part Number 1: LT1533CS#TR-ND; Packing: Tape and Reel; RoHS: FALSE; Mounting Technology: Surface Mount; ComponentLink1Description: Manufacturer URL; ComponentLink1URL: http://www.linear.com/; ComponentLink2Description: Datasheet; ComponentLink2URL: http://cds.linear.com/docs/en/datasheet/1533f.pdf; ComponentLink3Description: Package Specification; ComponentLink3URL: http://cds.linear.com/docs/en/packaging/S16%2005-08-1610%20Rev%20G.pdf
footprint LT-S-16_N (SOP, 16-Leads, Body 10x4mm, Pitch 1.27mm, IPC Medium Density)
footprint LT-S-16_L (SOP, 16-Leads, Body 10x4mm, Pitch 1.27mm, IPC High Density)
footprint LT-S-16_M (SOP, 16-Leads, Body 10x4mm, Pitch 1.27mm, IPC Low Density)
pins: 1 NC, 2 COL A (power) "These are the output collectors of the power switches. Their emitters return to PGND through a common sense resistor. COL A and COL B are alternately turned on out of phase. Large currents flow into these pins so it is (See Datasheet)", 3 DUTY (in) "Tying the DUTY pin to ground will force the outputs to switch with a 50% duty cycle. The DUTY pin must float if not used.", 4 SYNC (in) "The SYNC pin can be used to synchronize the oscillator to an external clock (see Oscillator Sync in Applications Information section for more details). The SYNC pin may either be floated or tied to ground if not used.", 5 CT "The oscillator capacitor pin is used in conjunction with RT to set the oscillator frequency.", 6 RT "The oscillator resistor pin is used to set the charge and discharge currents of the oscillator capacitor. The nominal value is 16.9k. It is possible to adjust this resistance +/-25% to get a more accurate oscillator (See Datasheet)", 7 FB (in) "The feedback pin is used for positive voltage sensing and oscillator frequency shifting during start-up and short-circuit conditions. It is the inverting input to the error amplifier. The noninverting input of this amplifier (See Datasheet)", 8 NFB (in) "The negative voltage feedback pin is used for sensing a negative output voltage. The pin is connected to the inverting input of the negative feedback amplifier through a 100k source resistor. The negative feedback amplifier (See Datasheet)", 9 GND (power) "Signal Ground. The internal error amplifier, negative feedback amplifier, oscillator, slew control circuitry and the bandgap reference are referred to this ground. Keep the connection to the feedback divider and VC (See Datasheet)", 10 VC "The compensation pin is used for frequency compensation and current limiting. It is the output of the error amplifier and the input of the current comparator. Loop frequency compensation can be performed with an RC network (See Datasheet)", 11 ~{SHDN} (in) "The shutdown pin is used for disabling the switcher. Grounding this pin will disable all internal circuitry. Normally this output can be tied high (to VIN) or may be left floating.", 12 RCSL (in) "A resistor to ground sets the current slew rate for the collectors A and B. The minimum resistor value is 3.9k and the maximum value is 68k.", 13 RVSL (in) "A resistor to ground sets the voltage slew rate for the collectors A and B. The minimum resistor value is 3.9k and the maximum value is 68k.", 14 VIN (power) "Input Supply Pin. Bypass this pin with a >= 4.7uF low ESR capacitor. When VIN is below 2.55V the part will go into undervoltage lockout where it will stop output switching and pull the VC pin low.", 15 COL B (power) "These are the output collectors of the power switches. Their emitters return to PGND through a common sense resistor. COL A and COL B are alternately turned on out of phase. Large currents flow into these pins so it is (See Datasheet)", 16 PGND (power) "Power Switch Ground. This ground comes from the emitters of the power switches. In normal operation this pin should have approximately 25nH inductance to ground. This can be done by trace inductance (approximately 1") or (See Datasheet)"